# Altium footprint library ZS3L.PcbLib: 1 footprints
Each footprint in its own frame and in the unit in brackets; x right, y up, seen from the top. Pads: shape width x height; smd on the part's side, far side on the other; paste and mask are expansions set on the pad; w line width, h text height; cw(c..) or ccw(c..) is an arc to the next point about the centre after c.
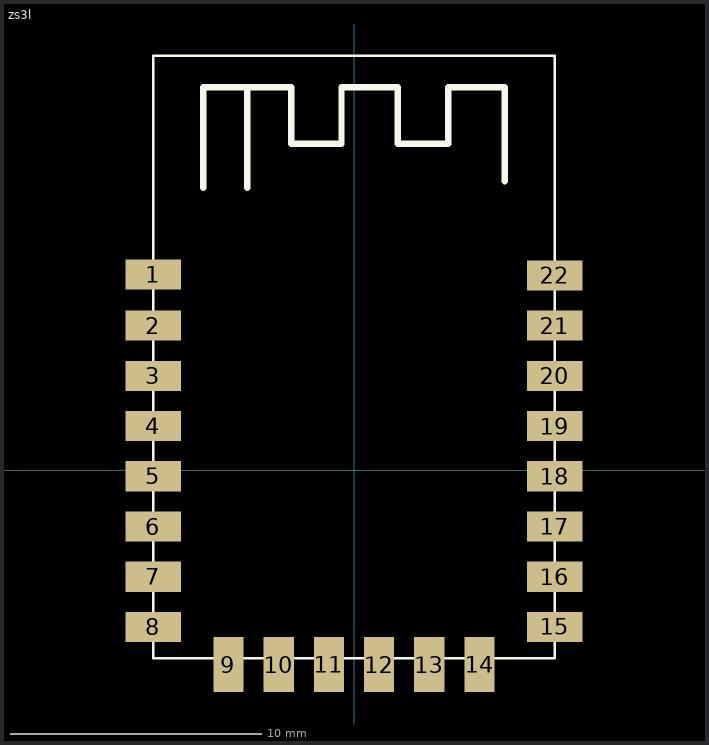
[diagram p0: the footprint, top view; thin cyan lines are the x and y axes]

## zs3l [mm]
pads (22):
  rect 2.2x1.2 smd: 1(-8,7.782) 2(-8,5.75) 3(-8,3.75) 4(-8,1.75) 5(-8,-0.25) 6(-8,-2.25) 7(-8,-4.25) 8(-8,-6.25) 15(8,-6.25) 16(8,-4.25) 17(8,-2.25) 18(8,-0.25) 19(8,1.75) 20(8,3.75) 21(8,5.75) 22(8,7.75)
  rect 1.2x2.2 smd: 9(-5,-7.75) 10(-3,-7.75) 11(-1,-7.75) 12(1,-7.75) 13(3,-7.75) 14(5,-7.75)
Top Overlay:
  lines w0.1: -8,-7.5 -8,16.5 8,16.5 8,-7.5 -8,-7.5
  lines w0.254: -6,11.25 -6,15.25 -4,15.25 ; -4.25,11.25 -4.25,15.25 -2.5,15.25 -2.5,13 -0.5,13 -0.5,15.25 1.75,15.25 1.75,13 3.75,13 3.75,15.25 6,15.25 6,11.5